# EAGLE library part ATTINYX4A (library nonolith)
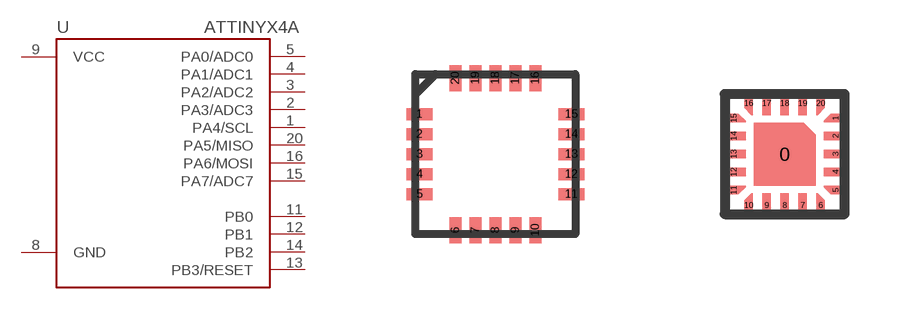
[diagram p26: symbol with the pads of QFN-20-NOPAD; footprints QFN-20-NOPAD, VQFN-20]

Designator prefix -

## ATTINYX4AMH-NOPAD  [QFN-20-NOPAD]
1  PA4/SCL
2  PA3/ADC3
3  PA2/ADC2
4  PA1/ADC1
5  PA0/ADC0
8  GND
9  VCC
11  PB0
12  PB1
13  PB3/RESET
14  PB2
15  PA7/ADC7
16  PA6/MOSI
20  PA5/MISO

## ATTINYX4AMMH  [VQFN-20]
Pads as for QFN-20-NOPAD

## ATTINYX4AMH  [QFN20]
0  GND
1  PA4/SCL
2  PA3/ADC3
3  PA2/ADC2
4  PA1/ADC1
5  PA0/ADC0
8  GND
9  VCC
11  PB0
12  PB1
13  PB3/RESET
14  PB2
15  PA7/ADC7
16  PA6/MOSI
20  PA5/MISO

## Footprint QFN-20-NOPAD (pad centres in mm)
smd 0.65 x 0.3: 1 -1.9,1; 2 -1.9,0.5; 3 -1.9,0; 4 -1.9,-0.5; 5 -1.9,-1; 11 1.9,-1; 12 1.9,-0.5; 13 1.9,0; 14 1.9,0.5; 15 1.9,1
smd 0.3 x 0.65: 6 -1,-1.9; 7 -0.5,-1.9; 8 0,-1.9; 9 0.5,-1.9; 10 1,-1.9; 16 1,1.9; 17 0.5,1.9; 18 0,1.9; 19 -0.5,1.9; 20 -1,1.9

## Footprint VQFN-20 (pad centres in mm)
3x3mm 20 pin QFN AKA Atmel's 20M2
smd 0.5 x 0.5: 0 0,0
smd 0.2 x 0.22: 1 1.275,0.9; 2 1.275,0.45; 3 1.275,0; 4 1.275,-0.45; 5 1.275,-0.9; 11 -1.275,-0.9; 12 -1.275,-0.45; 13 -1.275,0; 14 -1.275,0.45; 15 -1.275,0.9
smd 0.22 x 0.2: 6 0.9,-1.275; 7 0.45,-1.275; 8 0,-1.275; 9 -0.45,-1.275; 10 -0.9,-1.275; 16 -0.9,1.275; 17 -0.45,1.275; 18 0,1.275; 19 0.45,1.275; 20 0.9,1.275

## Footprint QFN20 (pad centres in mm)
smd 1 x 1: 0 0,0
smd 0.65 x 0.3: 1 -1.9,1; 2 -1.9,0.5; 3 -1.9,0; 4 -1.9,-0.5; 5 -1.9,-1; 11 1.9,-1; 12 1.9,-0.5; 13 1.9,0; 14 1.9,0.5; 15 1.9,1
smd 0.3 x 0.65: 6 -1,-1.9; 7 -0.5,-1.9; 8 0,-1.9; 9 0.5,-1.9; 10 1,-1.9; 16 1,1.9; 17 0.5,1.9; 18 0,1.9; 19 -0.5,1.9; 20 -1,1.9